# Altium schematic symbol library Passive.SchLib: 13 symbols
Pins are listed as number, name and electrical type; pins without a type are passive.

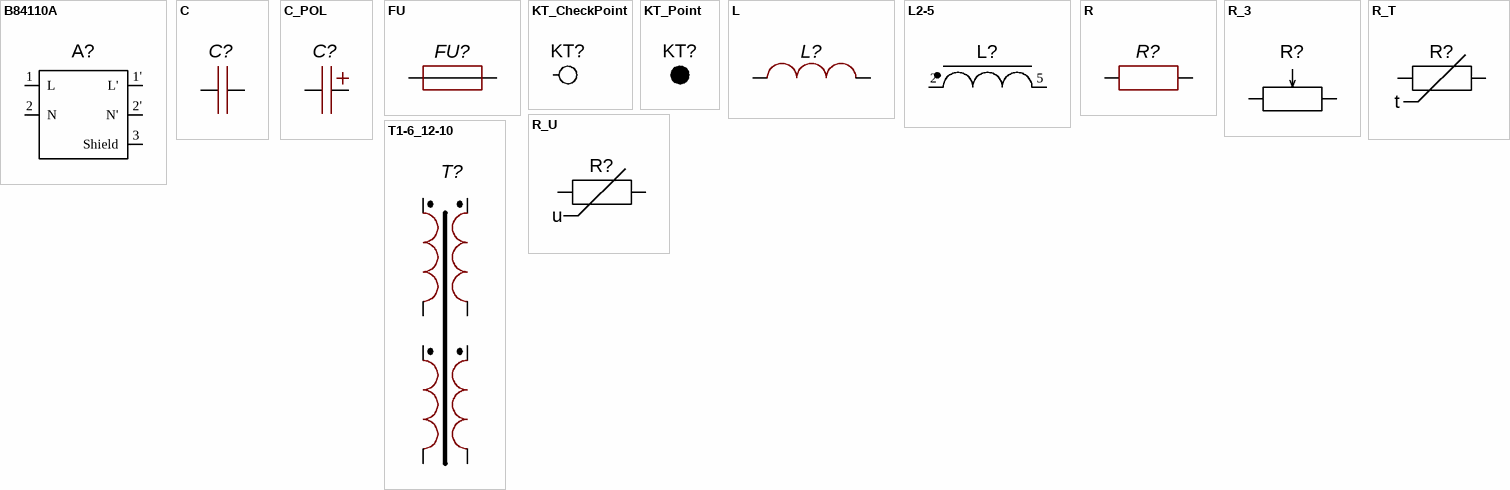
[diagram p0: symbols B84110A to T1-6_12-10]

## B84110A
designator A?  (value not drawn)
pins: 1 L, 1' L', 2 N, 2' N', 3 Shield

## C
designator C?
footprint C_1206 (Chip Capacitor, 2-Leads, Body 3.20x1.60mm, IPC Medium Density)
footprint C_0805 (Chip Capacitor, 2-Leads, Body 2.00x1.25mm, IPC Medium Density)
pins: 1, 2

## C_POL
designator C?
footprint C_SMD_Al_G (Aluminum Electrolytic Capacitor, Body 10.30x10.30x10.50mm, IPC Medium Density)
pins: 1, 2

## FU
designator FU?  (value not drawn)
pins: 1, 2

## KT_CheckPoint
designator KT?
pins: 1

## KT_Point
designator KT?
pins: 1

## L
designator L?
footprint IND_HTTI-220-3.0
pins: 1, 2

## L2-5
designator L?
pins: 2, 5

## R
designator R?
footprint R_1206 (Chip Resistor, 2-Leads, Body 3.10x1.60mm, IPC Medium Density)
footprint R_0805 (Chip Resistor, 2-Leads, Body 2.00x1.25mm, IPC Medium Density)
pins: 1, 2

## R_3
designator R?
pins: 1, 2, 3

## R_T
designator R?
pins: 1, 2
text: t

## R_U
designator R?
pins: 1, 2
text: u

## T1-6_12-10
designator T?
footprint TRANSFORMER_FS24-1500
pins: 1 6, 2 1, 3 6, 4 1, 5 12, 6 10, 7 12, 8 10